# EAGLE library part MCP9801-M/SN (library naut)
High-Accuracy Temperature Sensor
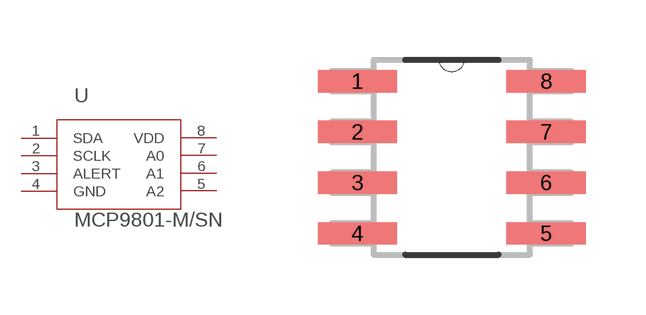
[diagram p5: symbol with the pads of SOIC127P600X175-8N; footprint SOIC127P600X175-8N]

Designator prefix -

## MCP9801-M/SN (DESCRIPTION: High-Accuracy Temperature Sensor; MPN: MCP9801-M/SN; OC_FARNELL: 1439486; OC_NEWARK: 88H9948; PACKAGE: SOIC-8; SUPPLIER: MICROCHIP)  [SOIC127P600X175-8N]
1  SDA
2  SCLK  in
3  ALERT  out
4  GND  pas
5  A2  in
6  A1  in
7  A0  in
8  VDD  pwr

## Footprint SOIC127P600X175-8N (pad centres in mm)
smd 1.981 x 0.559: 1 -2.362,1.905; 2 -2.362,0.635; 3 -2.362,-0.635; 4 -2.362,-1.905; 5 2.362,-1.905; 6 2.362,-0.635; 7 2.362,0.635; 8 2.362,1.905